# Altium footprint library PCB库.PcbLib: 4 footprints
Each footprint in its own frame and in the unit in brackets; x right, y up, seen from the top. Pads: shape width x height; smd on the part's side, far side on the other; paste and mask are expansions set on the pad; w line width, h text height; cw(c..) or ccw(c..) is an arc to the next point about the centre after c.
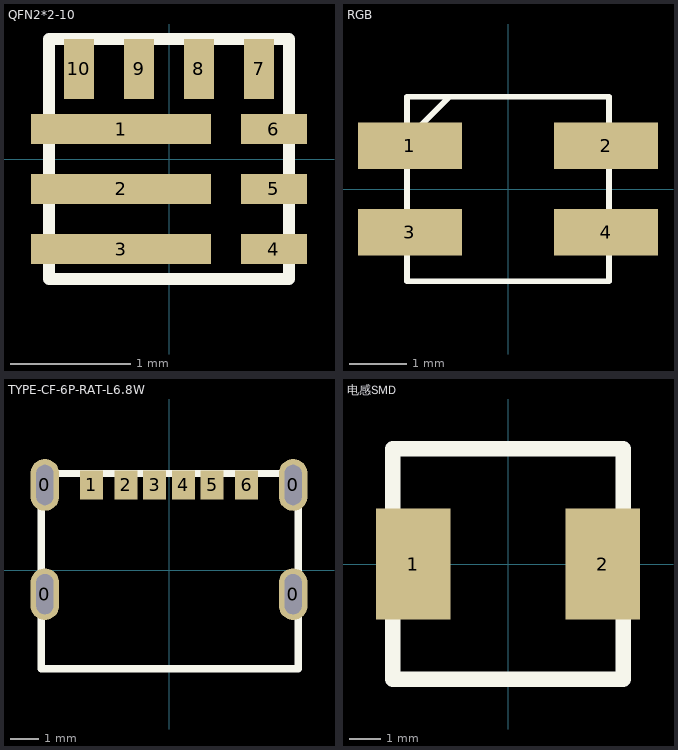
[diagram p0: the footprints below, top view; thin cyan lines are the x and y axes]

## QFN2*2-10 [mm]
pads (10):
  rect 1.5x0.25 smd: 1(-0.4,0.25) 2(-0.4,-0.25) 3(-0.4,-0.75)
  rect 0.55x0.25 smd mask+0.102: 4(0.875,-0.75)
  rect 0.55x0.25 smd: 5(0.875,-0.25) 6(0.875,0.25)
  rect 0.25x0.5 smd: 7(0.75,0.75) 8(0.25,0.75) 9(-0.25,0.75) 10(-0.75,0.75)
Top Overlay:
  lines w0.1: -1,-1 -1,1 1,1 1,-1 -1,-1
3D body "User Library-qfn2x2-10l.STEP": height 0.65, standoff 0, extent -1.01,-1 1.01,1.01
3D body: height 63.5, standoff 0, extent -1.473,0.508 -1.473,0.508

## RGB [mm] "3.5*3.2mm"
height 1.9
pads (4):
  rect 1.8x0.8 smd: 1(-1.7,0.75) 2(1.7,0.75) 3(-1.7,-0.75) 4(1.7,-0.75)
Top Overlay:
  lines w0.1: -1.75,0.864 -1.016,1.598 -1.016,1.6 ; -1.75,-1.6 1.75,-1.6 1.75,1.6 -1.75,1.6 -1.75,-1.6

## TYPE-CF-6P-RAT-L6.8W [mm]
pads (10):
  oval 1x1.8 hole 1.4 slot 0.6 at 0 deg unplated: 0(-4.32,-0.829) 0(-4.32,2.971) 0(4.32,-0.829) 0(4.32,2.971)
  rect 0.8x1 smd: 1(-2.7,2.971) 2(-1.5,2.971) 3(-0.5,2.971) 4(0.5,2.971) 5(1.5,2.971) 6(2.7,2.971)
Top Overlay:
  lines w0.254: -4.445,-3.429 4.495,-3.429 4.495,3.371 -4.445,3.371 -4.445,-3.429
3D body "User Library-USB Type C Port (SMD Type).STEP": height 1.61, standoff -2.6, extent -4.444,-3.978 4.496,3.922

## 电感SMD [mm]
pads (2):
  rect 2.35x3.5 smd: 1(-3,0) 2(3,0)
Top Overlay:
  lines w0.5: -3.614,3.614 -3.65,3.65 ; -3.65,3.65 3.65,3.65 3.65,-3.65 -3.65,-3.65 -3.65,3.65